# Altium footprint library WEMOS_D1_MINI.PcbLib: 1 footprints
Each footprint in its own frame and in the unit in brackets; x right, y up, seen from the top. Pads: shape width x height; smd on the part's side, far side on the other; paste and mask are expansions set on the pad; w line width, h text height; cw(c..) or ccw(c..) is an arc to the next point about the centre after c.
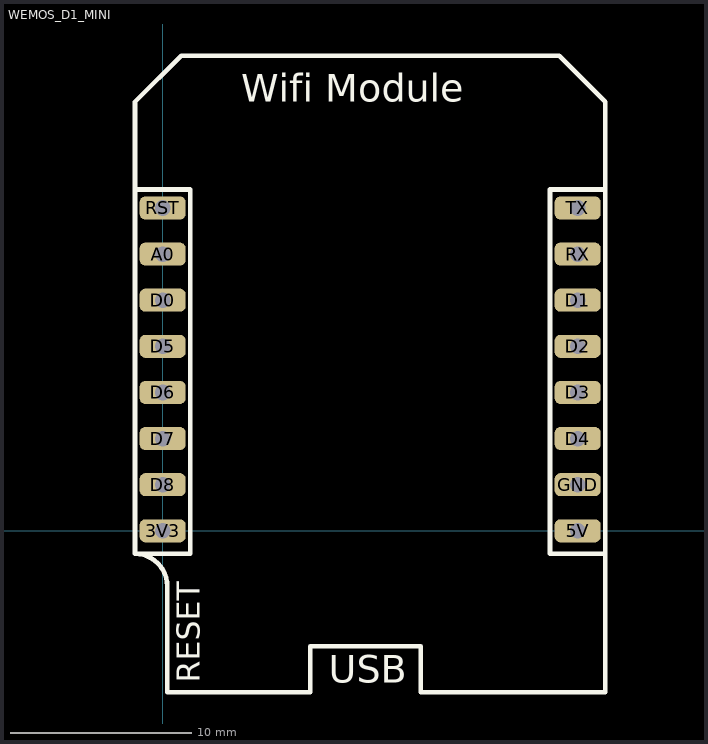
[diagram p0: the footprint, top view; thin cyan lines are the x and y axes]

## WEMOS_D1_MINI [mm]
pads (16):
  rrect50% 2.54x1.27 hole 0.86: 3V3(0,0) 5V(22.86,0) A0(0,15.24) D0(0,12.7) D1(22.86,12.7) D2(22.86,10.16) D3(22.86,7.62) D4(22.86,5.08) D5(0,10.16) D6(0,7.62) D7(0,5.08) D8(0,2.54) GND(22.86,2.54) RST(0,17.78) RX(22.86,15.24) TX(22.86,17.78)
Top Overlay:
  lines w0.254: -1.524,18.796 1.524,18.796 1.524,-1.27 -1.524,-1.27 ; 24.384,-1.27 21.336,-1.27 21.336,18.796 24.384,18.796 ; -1.524,-1.27 cw(c-1.524,-3.048) 0.254,-3.048 0.254,-8.89 8.128,-8.89 8.128,-6.35 14.224,-6.35 14.224,-8.89 24.384,-8.89 24.384,23.622 21.844,26.162 1.016,26.162 -1.524,23.622 -1.524,-1.27
  text "USB" at 9.144,-8.382 h1.52
  text "Wifi Module" at 4.318,23.622 h1.52
  text "RESET" at 2.032,-8.382 h1.27
3D body "zl262-8s_p2-54_l20-8_w2-54_h8-5.stp": height 14.05, standoff 2.55, extent 21.59,-1.77 24.13,19.05
3D body "zl262-8s_p2-54_l20-8_w2-54_h8-5.stp": height 14.05, standoff 2.55, extent -1.27,-1.774 1.27,19.046
3D body "Pin_header_str_1x08_p2_54mm.sldprt": height 8.54, standoff -3, extent 21.59,-1.27 24.13,19.05
3D body "Pin_header_str_1x08_p2_54mm.sldprt": height 8.54, standoff -3, extent -1.27,-1.27 1.27,19.05
3D body "WEMOS-D1-mini_detailed.SLDPRT": height 15.9, standoff 8.3, extent -1.524,-9.097 24.276,25.353